# Altium footprint library BQ21080.PcbLib: 1 footprints
Each footprint in its own frame and in the unit in brackets; x right, y up, seen from the top. Pads: shape width x height; smd on the part's side, far side on the other; paste and mask are expansions set on the pad; w line width, h text height; cw(c..) or ccw(c..) is an arc to the next point about the centre after c.
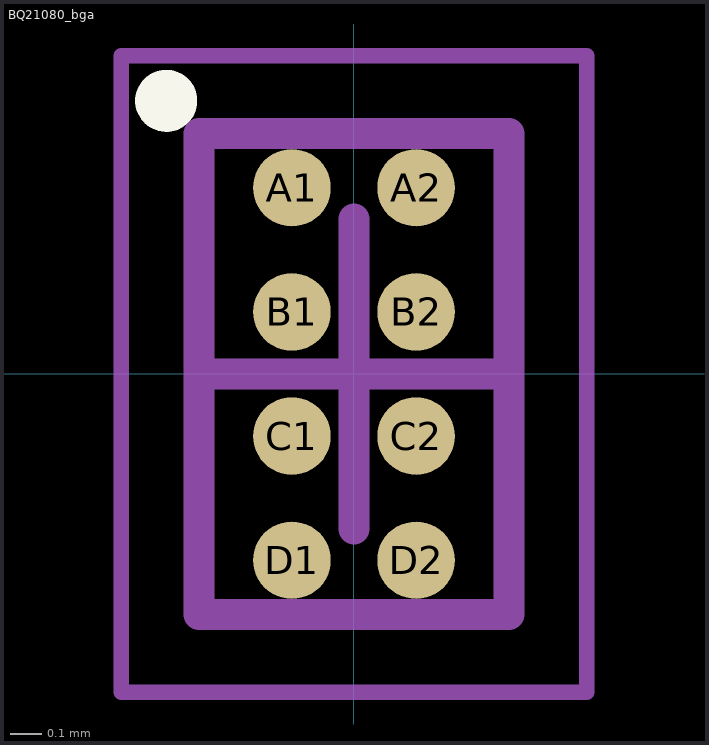
[diagram p0: the footprint, top view; thin cyan lines are the x and y axes]

## BQ21080_bga [mm] "BGA, 6-Leads, Body 1.00x1.55mmx0.50mm, Pitch 0.40mm"
height 0.5
pads (8):
  round 0.25 smd mask+0.06: A1(-0.2,0.6) A2(0.2,0.6) B1(-0.2,0.2) B2(0.2,0.2) C1(-0.2,-0.2) C2(0.2,-0.2) D1(-0.2,-0.6) D2(0.2,-0.6)
Top Overlay:
  circle w0.1: c-0.605,0.88 r0.05
Mechanical 13:
  lines w0.1: -0.5,-0.775 0.5,-0.775 0.5,0.775 -0.5,0.775 -0.5,-0.775
Mechanical 15:
  lines w0.05: -0.75,-1.025 0.75,-1.025 0.75,1.025 -0.75,1.025 -0.75,-1.025
  lines w0.1: -0.5,0 0.5,0 ; 0,-0.5 0,0.5
3D body "BQ21080_bga.step": height 0.5, standoff 0, extent -0.5,-0.775 0.5,0.775